# EAGLE library part TEXAS_INSTRUMENTS-BUCK_CONVERTER-TPS40197_RGY_16 (library Module_Regulators)
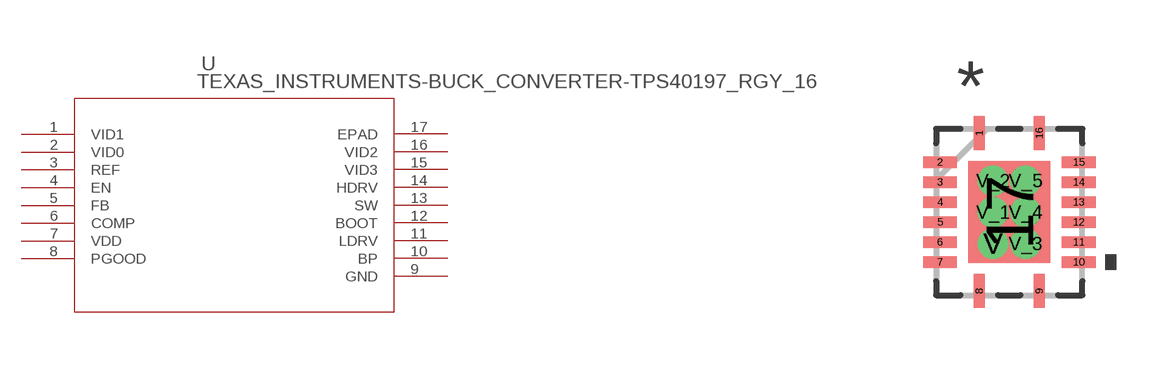
[diagram p18: symbol with the pads of TEXAS_INSTRUMENTS-BUCK_CONVERTER-TPS40197_RGY_16; footprint TEXAS_INSTRUMENTS-BUCK_CONVERTER-TPS40197_RGY_16]

Designator prefix U

## TEXAS_INSTRUMENTS-BUCK_CONVERTER-TPS40197_RGY_16 (DATASHEETURL: httpwww.ti.comlitgpnTPS40197; FAMILY_NAME: STEPDOWN CONTROLLER; GENERIC_PART_NUMBER: TPS40197; INDUSTRY_STD_PKG_TYPE: VQFN; MANUFACTURER: Texas Instruments; MANUFACTURER_PART_NUMBER: tps40197_rgy_16; PACKAGE_DESIGNATOR: RGY; PIN_COUNT: 16; VENDOR: Texas Instruments)  [TEXAS_INSTRUMENTS-BUCK_CONVERTER-TPS40197_RGY_16]
1  VID1  in
2  VID0  in
3  REF  in
4  EN  in
5  FB  in
6  COMP  out
7  VDD  in
8  PGOOD  out
9  GND  pwr
10  BP  out
11  LDRV  out
12  BOOT  in
13  SW  pas
14  HDRV  out
15  VID3  in
16  VID2  in
17  EPAD  pas

## Footprint TEXAS_INSTRUMENTS-BUCK_CONVERTER-TPS40197_RGY_16 (pad centres in mm)
smd 0.28 x 0.85: 1 -0.75,1.975; 8 -0.75,-1.975; 9 0.75,-1.975; 16 0.75,1.975
smd 0.85 x 0.28: 2 -1.733,1.25; 3 -1.733,0.75; 4 -1.733,0.25; 5 -1.733,-0.25; 6 -1.733,-0.75; 7 -1.733,-1.25; 10 1.733,-1.25; 11 1.733,-0.75; 12 1.733,-0.25; 13 1.733,0.25; 14 1.733,0.75; 15 1.733,1.25
smd 2.05 x 2.55: 17 0,0
drill 0.254 pad 0.508: V -0.406,-0.787; V_1 -0.406,0; V_2 -0.406,0.787; V_3 0.406,-0.787; V_4 0.406,0; V_5 0.406,0.787